# Altium footprint library TI PCB.PCBLIB: 93 footprints (part 6 of 6)
Each footprint in its own frame and in the unit in brackets; x right, y up, seen from the top. Pads: shape width x height; smd on the part's side, far side on the other; paste and mask are expansions set on the pad; w line width, h text height; cw(c..) or ccw(c..) is an arc to the next point about the centre after c.
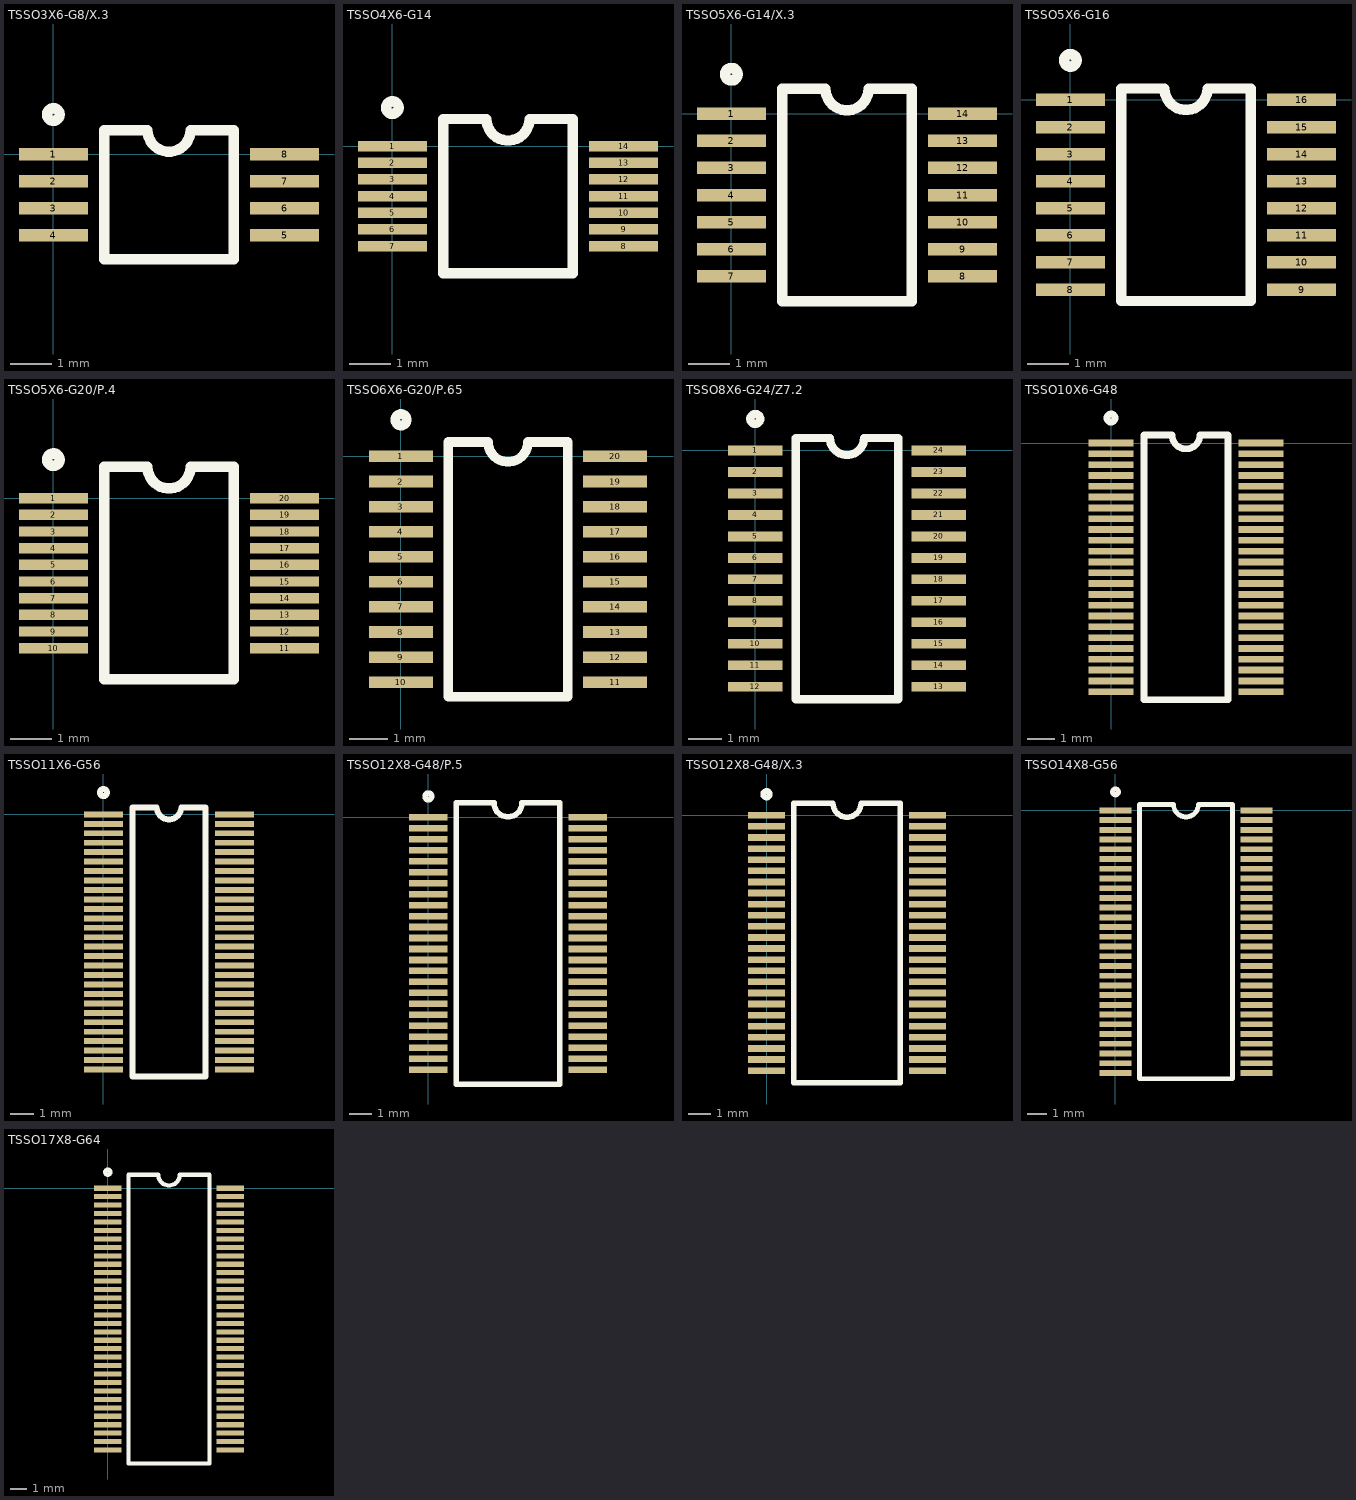
[diagram p5: the footprints below, top view; thin cyan lines are the x and y axes]

## TSSO3X6-G8/X.3 [mm]
pads (8):
  rect 1.65x0.3 smd: 1(0,0) 2(0,-0.65) 3(0,-1.3) 4(0,-1.95) 5(5.55,-1.95) 6(5.55,-1.3) 7(5.55,-0.65) 8(5.55,0)
Top Overlay:
  circle w0.25: c0,0.95 r0.15
  lines w0.25: 1.225,-2.525 4.325,-2.525 4.325,0.575 3.292,0.575 cw(c2.775,0.575) 2.258,0.575 1.225,0.575 1.225,-2.525

## TSSO4X6-G14 [mm]
pads (14):
  rect 1.65x0.25 smd: 1(0,0) 2(0,-0.4) 3(0,-0.8) 4(0,-1.2) 5(0,-1.6) 6(0,-2) 7(0,-2.4) 8(5.55,-2.4) 9(5.55,-2) 10(5.55,-1.6) 11(5.55,-1.2) 12(5.55,-0.8) 13(5.55,-0.4) 14(5.55,0)
Top Overlay:
  circle w0.25: c0,0.925 r0.15
  lines w0.25: 1.225,-3.05 4.325,-3.05 4.325,0.65 3.292,0.65 cw(c2.775,0.65) 2.258,0.65 1.225,0.65 1.225,-3.05

## TSSO5X6-G14/X.3 [mm]
pads (14):
  rect 1.65x0.3 smd: 1(0,0) 2(0,-0.65) 3(0,-1.3) 4(0,-1.95) 5(0,-2.6) 6(0,-3.25) 7(0,-3.9) 8(5.55,-3.9) 9(5.55,-3.25) 10(5.55,-2.6) 11(5.55,-1.95) 12(5.55,-1.3) 13(5.55,-0.65) 14(5.55,0)
Top Overlay:
  circle w0.25: c0,0.95 r0.15
  lines w0.25: 1.225,-4.5 1.225,0.6 2.258,0.6 ccw(c2.775,0.6) 3.292,0.6 4.325,0.6 4.325,-4.5 1.225,-4.5

## TSSO5X6-G16 [mm]
pads (16):
  rect 1.65x0.3 smd: 1(0,0) 2(0,-0.65) 3(0,-1.3) 4(0,-1.95) 5(0,-2.6) 6(0,-3.25) 7(0,-3.9) 8(0,-4.55) 9(5.55,-4.55) 10(5.55,-3.9) 11(5.55,-3.25) 12(5.55,-2.6) 13(5.55,-1.95) 14(5.55,-1.3) 15(5.55,-0.65) 16(5.55,0)
Top Overlay:
  circle w0.25: c0,0.95 r0.15
  lines w0.25: 1.225,-4.825 4.325,-4.825 4.325,0.275 3.292,0.275 cw(c2.775,0.275) 2.258,0.275 1.225,0.275 1.225,-4.825

## TSSO5X6-G20/P.4 [mm]
pads (20):
  rect 1.65x0.25 smd: 1(0,0) 2(0,-0.4) 3(0,-0.8) 4(0,-1.2) 5(0,-1.6) 6(0,-2) 7(0,-2.4) 8(0,-2.8) 9(0,-3.2) 10(0,-3.6) 11(5.55,-3.6) 12(5.55,-3.2) 13(5.55,-2.8) 14(5.55,-2.4) 15(5.55,-2) 16(5.55,-1.6) 17(5.55,-1.2) 18(5.55,-0.8) 19(5.55,-0.4) 20(5.55,0)
Top Overlay:
  circle w0.25: c0,0.925 r0.15
  lines w0.25: 1.225,-4.35 4.325,-4.35 4.325,0.75 3.292,0.75 cw(c2.775,0.75) 2.258,0.75 1.225,0.75 1.225,-4.35

## TSSO6X6-G20/P.65 [mm]
pads (20):
  rect 1.65x0.3 smd: 1(0,0) 2(0,-0.65) 3(0,-1.3) 4(0,-1.95) 5(0,-2.6) 6(0,-3.25) 7(0,-3.9) 8(0,-4.55) 9(0,-5.2) 10(0,-5.85) 11(5.55,-5.85) 12(5.55,-5.2) 13(5.55,-4.55) 14(5.55,-3.9) 15(5.55,-3.25) 16(5.55,-2.6) 17(5.55,-1.95) 18(5.55,-1.3) 19(5.55,-0.65) 20(5.55,0)
Top Overlay:
  circle w0.25: c0,0.95 r0.15
  lines w0.25: 1.225,-6.225 4.325,-6.225 4.325,0.375 3.292,0.375 cw(c2.775,0.375) 2.258,0.375 1.225,0.375 1.225,-6.225

## TSSO8X6-G24/Z7.2 [mm]
pads (24):
  rect 1.65x0.3 smd: 1(0,0) 2(0,-0.65) 3(0,-1.3) 4(0,-1.95) 5(0,-2.6) 6(0,-3.25) 7(0,-3.9) 8(0,-4.55) 9(0,-5.2) 10(0,-5.85) 11(0,-6.5) 12(0,-7.15) 13(5.55,-7.15) 14(5.55,-6.5) 15(5.55,-5.85) 16(5.55,-5.2) 17(5.55,-4.55) 18(5.55,-3.9) 19(5.55,-3.25) 20(5.55,-2.6) 21(5.55,-1.95) 22(5.55,-1.3) 23(5.55,-0.65) 24(5.55,0)
Top Overlay:
  circle w0.25: c0,0.95 r0.15
  lines w0.25: 1.225,-7.525 1.225,0.375 2.258,0.375 ccw(c2.775,0.375) 3.292,0.375 4.325,0.375 4.325,-7.525 1.225,-7.525

## TSSO10X6-G48 [mm]
pads (48):
  rect 1.65x0.25 smd: 1(0,0) 2(0,-0.4) 3(0,-0.8) 4(0,-1.2) 5(0,-1.6) 6(0,-2) 7(0,-2.4) 8(0,-2.8) 9(0,-3.2) 10(0,-3.6) 11(0,-4) 12(0,-4.4) 13(0,-4.8) 14(0,-5.2) 15(0,-5.6) 16(0,-6) 17(0,-6.4) 18(0,-6.8) 19(0,-7.2) 20(0,-7.6) 21(0,-8) 22(0,-8.4) 23(0,-8.8) 24(0,-9.2) 25(5.55,-9.2) 26(5.55,-8.8) 27(5.55,-8.4) 28(5.55,-8) 29(5.55,-7.6) 30(5.55,-7.2) 31(5.55,-6.8) 32(5.55,-6.4) 33(5.55,-6) 34(5.55,-5.6) 35(5.55,-5.2) 36(5.55,-4.8) 37(5.55,-4.4) 38(5.55,-4) 39(5.55,-3.6) 40(5.55,-3.2) 41(5.55,-2.8) 42(5.55,-2.4) 43(5.55,-2) 44(5.55,-1.6) 45(5.55,-1.2) 46(5.55,-0.8) 47(5.55,-0.4) 48(5.55,0)
Top Overlay:
  circle w0.25: c0,0.925 r0.15
  lines w0.25: 1.225,-9.5 1.225,0.3 2.258,0.3 ccw(c2.775,0.3) 3.292,0.3 4.325,0.3 4.325,-9.5 1.225,-9.5

## TSSO11X6-G56 [mm]
pads (56):
  rect 1.65x0.25 smd: 1(0,0) 2(0,-0.4) 3(0,-0.8) 4(0,-1.2) 5(0,-1.6) 6(0,-2) 7(0,-2.4) 8(0,-2.8) 9(0,-3.2) 10(0,-3.6) 11(0,-4) 12(0,-4.4) 13(0,-4.8) 14(0,-5.2) 15(0,-5.6) 16(0,-6) 17(0,-6.4) 18(0,-6.8) 19(0,-7.2) 20(0,-7.6) 21(0,-8) 22(0,-8.4) 23(0,-8.8) 24(0,-9.2) 25(0,-9.6) 26(0,-10) 27(0,-10.4) 28(0,-10.8) 29(5.55,-10.8) 30(5.55,-10.4) 31(5.55,-10) 32(5.55,-9.6) 33(5.55,-9.2) 34(5.55,-8.8) 35(5.55,-8.4) 36(5.55,-8) 37(5.55,-7.6) 38(5.55,-7.2) 39(5.55,-6.8) 40(5.55,-6.4) 41(5.55,-6) 42(5.55,-5.6) 43(5.55,-5.2) 44(5.55,-4.8) 45(5.55,-4.4) 46(5.55,-4) 47(5.55,-3.6) 48(5.55,-3.2) 49(5.55,-2.8) 50(5.55,-2.4) 51(5.55,-2) 52(5.55,-1.6) 53(5.55,-1.2) 54(5.55,-0.8) 55(5.55,-0.4) 56(5.55,0)
Top Overlay:
  circle w0.25: c0,0.925 r0.15
  lines w0.25: 1.225,-11.1 1.225,0.3 2.258,0.3 ccw(c2.775,0.3) 3.292,0.3 4.325,0.3 4.325,-11.1 1.225,-11.1

## TSSO12X8-G48/P.5 [mm]
pads (48):
  rect 1.75x0.3 smd: 1(0,0) 2(0,-0.5) 3(0,-1) 4(0,-1.5) 5(0,-2) 6(0,-2.5) 7(0,-3) 8(0,-3.5) 9(0,-4) 10(0,-4.5) 11(0,-5) 12(0,-5.5) 13(0,-6) 14(0,-6.5) 15(0,-7) 16(0,-7.5) 17(0,-8) 18(0,-8.5) 19(0,-9) 20(0,-9.5) 21(0,-10) 22(0,-10.5) 23(0,-11) 24(0,-11.5) 25(7.25,-11.5) 26(7.25,-11) 27(7.25,-10.5) 28(7.25,-10) 29(7.25,-9.5) 30(7.25,-9) 31(7.25,-8.5) 32(7.25,-8) 33(7.25,-7.5) 34(7.25,-7) 35(7.25,-6.5) 36(7.25,-6) 37(7.25,-5.5) 38(7.25,-5) 39(7.25,-4.5) 40(7.25,-4) 41(7.25,-3.5) 42(7.25,-3) 43(7.25,-2.5) 44(7.25,-2) 45(7.25,-1.5) 46(7.25,-1) 47(7.25,-0.5) 48(7.25,0)
Top Overlay:
  circle w0.25: c0,0.95 r0.15
  lines w0.25: 1.275,-12.15 1.275,0.65 2.99,0.65 ccw(c3.625,0.65) 4.26,0.65 5.975,0.65 5.975,-12.15 1.275,-12.15

## TSSO12X8-G48/X.3 [mm]
pads (48):
  rect 1.65x0.3 smd: 1(0,0) 2(0,-0.5) 3(0,-1) 4(0,-1.5) 5(0,-2) 6(0,-2.5) 7(0,-3) 8(0,-3.5) 9(0,-4) 10(0,-4.5) 11(0,-5) 12(0,-5.5) 13(0,-6) 14(0,-6.5) 15(0,-7) 16(0,-7.5) 17(0,-8) 18(0,-8.5) 19(0,-9) 20(0,-9.5) 21(0,-10) 22(0,-10.5) 23(0,-11) 24(0,-11.5) 25(7.25,-11.5) 26(7.25,-11) 27(7.25,-10.5) 28(7.25,-10) 29(7.25,-9.5) 30(7.25,-9) 31(7.25,-8.5) 32(7.25,-8) 33(7.25,-7.5) 34(7.25,-7) 35(7.25,-6.5) 36(7.25,-6) 37(7.25,-5.5) 38(7.25,-5) 39(7.25,-4.5) 40(7.25,-4) 41(7.25,-3.5) 42(7.25,-3) 43(7.25,-2.5) 44(7.25,-2) 45(7.25,-1.5) 46(7.25,-1) 47(7.25,-0.5) 48(7.25,0)
Top Overlay:
  circle w0.25: c0,0.95 r0.15
  lines w0.25: 1.225,-12.05 6.025,-12.05 6.025,0.55 4.26,0.55 cw(c3.625,0.55) 2.99,0.55 1.225,0.55 1.225,-12.05

## TSSO14X8-G56 [mm]
pads (56):
  rect 1.65x0.3 smd: 1(0,0) 2(0,-0.5) 3(0,-1) 4(0,-1.5) 5(0,-2) 6(0,-2.5) 7(0,-3) 8(0,-3.5) 9(0,-4) 10(0,-4.5) 11(0,-5) 12(0,-5.5) 13(0,-6) 14(0,-6.5) 15(0,-7) 16(0,-7.5) 17(0,-8) 18(0,-8.5) 19(0,-9) 20(0,-9.5) 21(0,-10) 22(0,-10.5) 23(0,-11) 24(0,-11.5) 25(0,-12) 26(0,-12.5) 27(0,-13) 28(0,-13.5) 29(7.25,-13.5) 30(7.25,-13) 31(7.25,-12.5) 32(7.25,-12) 33(7.25,-11.5) 34(7.25,-11) 35(7.25,-10.5) 36(7.25,-10) 37(7.25,-9.5) 38(7.25,-9) 39(7.25,-8.5) 40(7.25,-8) 41(7.25,-7.5) 42(7.25,-7) 43(7.25,-6.5) 44(7.25,-6) 45(7.25,-5.5) 46(7.25,-5) 47(7.25,-4.5) 48(7.25,-4) 49(7.25,-3.5) 50(7.25,-3) 51(7.25,-2.5) 52(7.25,-2) 53(7.25,-1.5) 54(7.25,-1) 55(7.25,-0.5) 56(7.25,0)
Top Overlay:
  circle w0.25: c0,0.95 r0.15
  lines w0.25: 1.225,-13.8 1.225,0.3 2.99,0.3 ccw(c3.625,0.3) 4.26,0.3 6.025,0.3 6.025,-13.8 1.225,-13.8

## TSSO17X8-G64 [mm]
pads (64):
  rect 1.65x0.3 smd: 1(0,0) 2(0,-0.5) 3(0,-1) 4(0,-1.5) 5(0,-2) 6(0,-2.5) 7(0,-3) 8(0,-3.5) 9(0,-4) 10(0,-4.5) 11(0,-5) 12(0,-5.5) 13(0,-6) 14(0,-6.5) 15(0,-7) 16(0,-7.5) 17(0,-8) 18(0,-8.5) 19(0,-9) 20(0,-9.5) 21(0,-10) 22(0,-10.5) 23(0,-11) 24(0,-11.5) 25(0,-12) 26(0,-12.5) 27(0,-13) 28(0,-13.5) 29(0,-14) 30(0,-14.5) 31(0,-15) 32(0,-15.5) 33(7.25,-15.5) 34(7.25,-15) 35(7.25,-14.5) 36(7.25,-14) 37(7.25,-13.5) 38(7.25,-13) 39(7.25,-12.5) 40(7.25,-12) 41(7.25,-11.5) 42(7.25,-11) 43(7.25,-10.5) 44(7.25,-10) 45(7.25,-9.5) 46(7.25,-9) 47(7.25,-8.5) 48(7.25,-8) 49(7.25,-7.5) 50(7.25,-7) 51(7.25,-6.5) 52(7.25,-6) 53(7.25,-5.5) 54(7.25,-5) 55(7.25,-4.5) 56(7.25,-4) 57(7.25,-3.5) 58(7.25,-3) 59(7.25,-2.5) 60(7.25,-2) 61(7.25,-1.5) 62(7.25,-1) 63(7.25,-0.5) 64(7.25,0)
Top Overlay:
  circle w0.25: c0,0.95 r0.15
  lines w0.25: 1.225,-16.3 6.025,-16.3 6.025,0.8 4.26,0.8 cw(c3.625,0.8) 2.99,0.8 1.225,0.8 1.225,-16.3